# Altium integrated library Lattice CPLD ispXPLD 5000MX.IntLib: 156 symbols (part 31 of 46)
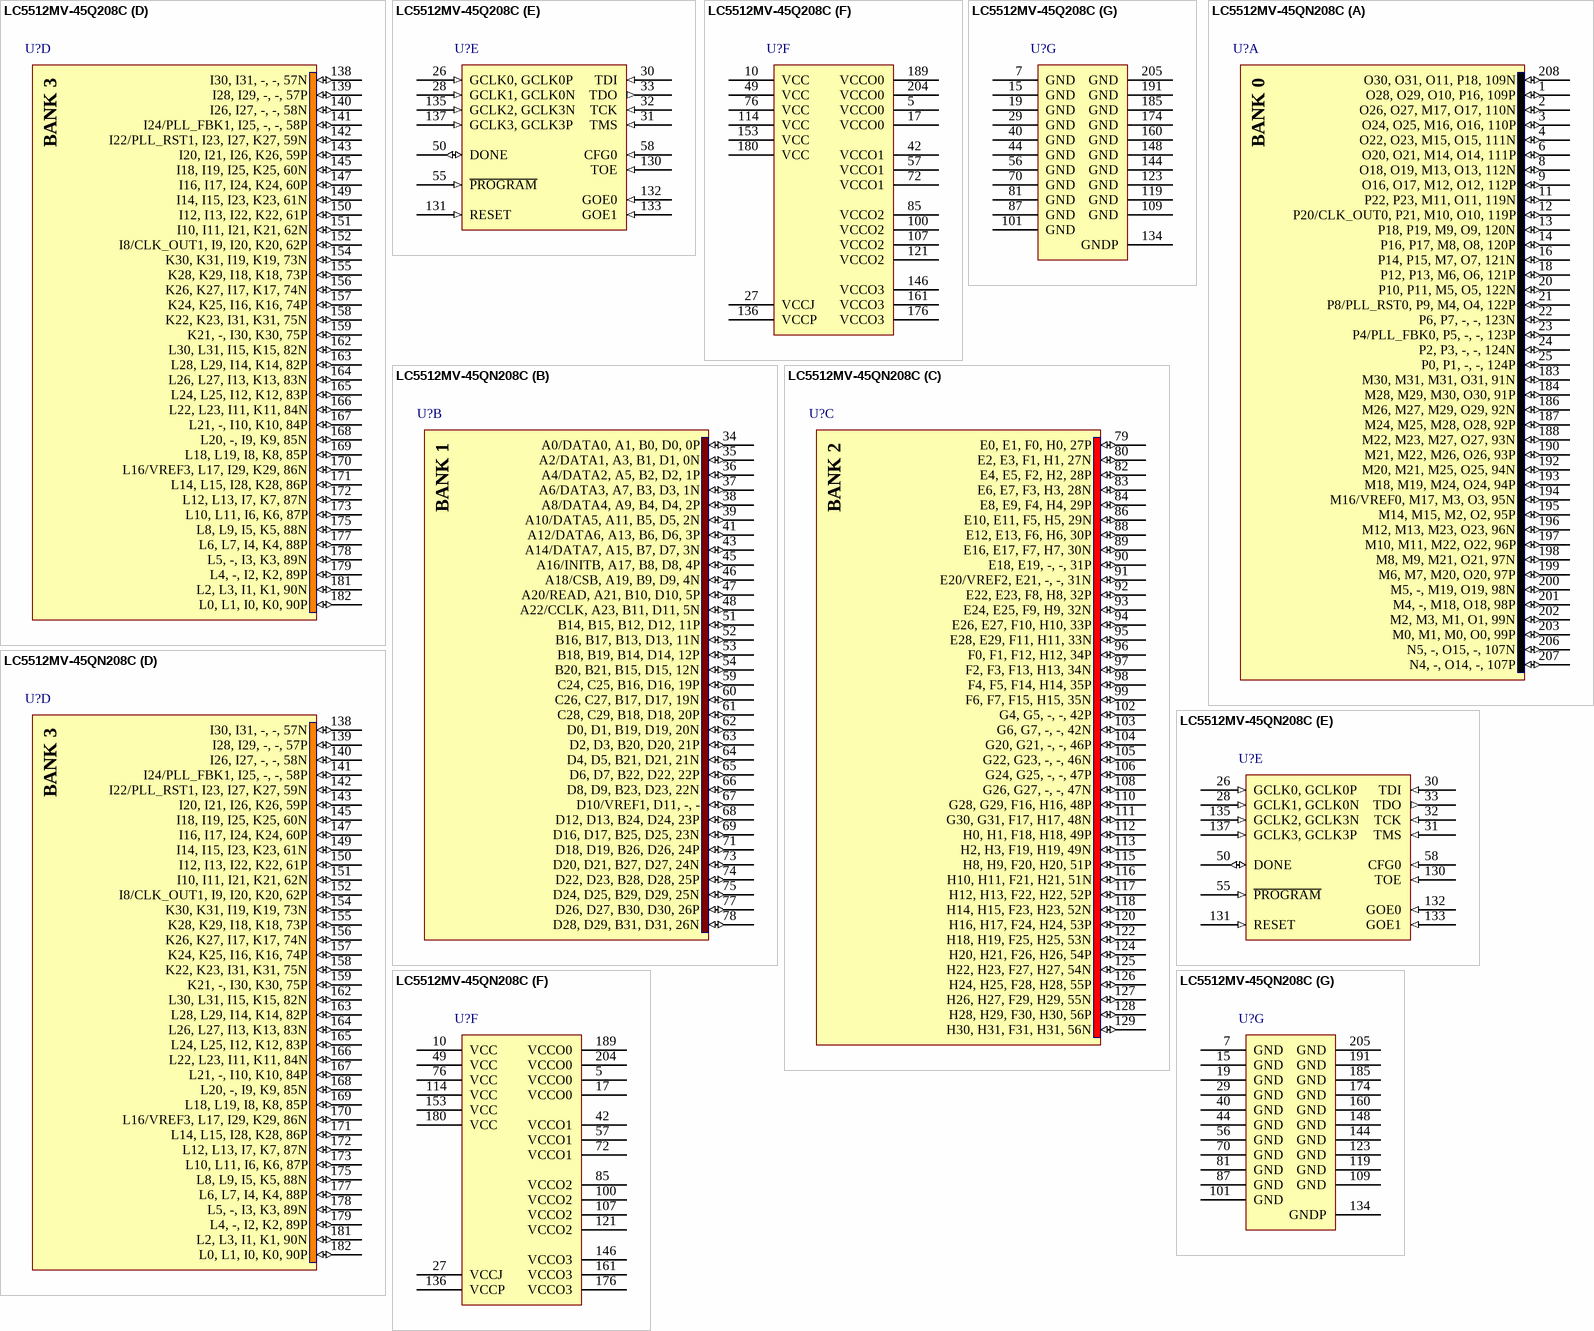
[diagram p312: symbols LC5512MV-45Q208C to LC5512MV-45QN208C]

## LC5512MV-45QN208C
designator U?
ispXPLD 5512M eXpanded PLD: 3.3 V, 149 User I/Os, 208-Pin PQFP, Speed 4.5 ns, Commercial Grade, Pb-Free; Published: 6-Oct-2005; LatestRevisionDate: 30-Mar-2007; LatestRevisionNote: Banks placed in parts.; DatasheetVersion: ver12.2, Mar-2006; PackageVersion: ver01.2 Feb-2007; PackageReference: PQFP208; Publisher: Altium Limited; PackageDescription: 208-Pin Plastic Quad Flat Pack (PQFP208); Code_JEDEC: MO-143-FAI; ComponentLink1Description: Manufacturer Link; ComponentLink1URL: http://www.latticesemi.com/products/cpld/xpld/index.cfm; ComponentLink2Description: Datasheet; ComponentLink2URL: http://www.latticesemi.com/lit/docs/datasheets/cpld/5kmx.pdf
footprint PQFP208_N (Shrink QFP, 208-Leads, Body 28x28mm, Pitch 0.5mm, IPC Medium Density)
footprint PQFP208_L (Shrink QFP, 208-Leads, Body 28x28mm, Pitch 0.5mm, IPC High Density)
footprint PQFP208_M (Shrink QFP, 208-Leads, Body 28x28mm, Pitch 0.5mm, IPC Low Density)
3D model ispXPLD5512MV-FQFP208 (208-Pin Plastic Quad Flat Pack (PQFP208))
part A pins: 1 O28, O29, O10, P16, 109P (io) "General purpose I/O.", 2 O26, O27, M17, O17, 110N (io) "General purpose I/O.", 3 O24, O25, M16, O16, 110P (io) "General purpose I/O.", 4 O22, O23, M15, O15, 111N (io) "General purpose I/O.", 6 O20, O21, M14, O14, 111P (io) "General purpose I/O.", 8 O18, O19, M13, O13, 112N (io) "General purpose I/O.", 9 O16, O17, M12, O12, 112P (io) "General purpose I/O.", 11 P22, P23, M11, O11, 119N (io) "General purpose I/O.", 12 P20/CLK_OUT0, P21, M10, O10, 119P (io) "Dual-purpose pin that is general I/O or Optional clock output from PLL0.", 13 P18, P19, M9, O9, 120N (io) "General purpose I/O.", 14 P16, P17, M8, O8, 120P (io) "General purpose I/O.", 16 P14, P15, M7, O7, 121N (io) "General purpose I/O.", 18 P12, P13, M6, O6, 121P (io) "General purpose I/O.", 20 P10, P11, M5, O5, 122N (io) "General purpose I/O.", 21 P8/PLL_RST0, P9, M4, O4, 122P (io) "Dual-purpose pin that is general I/O or Optional input resets M divider in PLL0.", 22 P6, P7, -, -, 123N (io) "General purpose I/O.", 23 P4/PLL_FBK0, P5, -, -, 123P (io) "Dual-purpose pin that is general I/O or Optional feeback for PLL0.", 24 P2, P3, -, -, 124N (io) "General purpose I/O.", 25 P0, P1, -, -, 124P (io) "General purpose I/O.", 183 M30, M31, M31, O31, 91N (io) "General purpose I/O.", 184 M28, M29, M30, O30, 91P (io) "General purpose I/O.", 186 M26, M27, M29, O29, 92N (io) "General purpose I/O.", 187 M24, M25, M28, O28, 92P (io) "General purpose I/O.", 188 M22, M23, M27, O27, 93N (io) "General purpose I/O.", 190 M21, M22, M26, O26, 93P (io) "General purpose I/O.", 192 M20, M21, M25, O25, 94N (io) "General purpose I/O.", 193 M18, M19, M24, O24, 94P (io) "General purpose I/O.", 194 M16/VREF0, M17, M3, O3, 95N (io) "Dual-purpose pin that is general I/O or Defines I/O bank reference voltage.", 195 M14, M15, M2, O2, 95P (io) "General purpose I/O.", 196 M12, M13, M23, O23, 96N (io) "General purpose I/O.", 197 M10, M11, M22, O22, 96P (io) "General purpose I/O.", 198 M8, M9, M21, O21, 97N (io) "General purpose I/O.", 199 M6, M7, M20, O20, 97P (io) "General purpose I/O.", 200 M5, -, M19, O19, 98N (io) "General purpose I/O.", 201 M4, -, M18, O18, 98P (io) "General purpose I/O.", 202 M2, M3, M1, O1, 99N (io) "General purpose I/O.", 203 M0, M1, M0, O0, 99P (io) "General purpose I/O.", 206 N5, -, O15, -, 107N (io) "General purpose I/O.", 207 N4, -, O14, -, 107P (io) "General purpose I/O.", 208 O30, O31, O11, P18, 109N (io) "General purpose I/O."
part B pins: 34 A0/DATA0, A1, B0, D0, 0P (io) "Dual-purpose pin that is general I/O or sysCONFIG data pin.", 35 A2/DATA1, A3, B1, D1, 0N (io) "Dual-purpose pin that is general I/O or sysCONFIG data pin.", 36 A4/DATA2, A5, B2, D2, 1P (io) "Dual-purpose pin that is general I/O or sysCONFIG data pin.", 37 A6/DATA3, A7, B3, D3, 1N (io) "Dual-purpose pin that is general I/O or sysCONFIG data pin.", 38 A8/DATA4, A9, B4, D4, 2P (io) "Dual-purpose pin that is general I/O or sysCONFIG data pin.", 39 A10/DATA5, A11, B5, D5, 2N (io) "Dual-purpose pin that is general I/O or sysCONFIG data pin.", 41 A12/DATA6, A13, B6, D6, 3P (io) "Dual-purpose pin that is general I/O or sysCONFIG data pin.", 43 A14/DATA7, A15, B7, D7, 3N (io) "Dual-purpose pin that is general I/O or sysCONFIG data pin.", 45 A16/INITB, A17, B8, D8, 4P (io) "Dual-purpose pin that is general I/O or Indicates status of configuration.", 46 A18/CSB, A19, B9, D9, 4N (io) "General purpose I/O.", 47 A20/READ, A21, B10, D10, 5P (io) "Dual-purpose pin that is general I/O or Drive high to perform reads from sysCONFIG interface.", 48 A22/CCLK, A23, B11, D11, 5N (io) "General purpose I/O.", 51 B14, B15, B12, D12, 11P (io) "General purpose I/O.", 52 B16, B17, B13, D13, 11N (io) "General purpose I/O.", 53 B18, B19, B14, D14, 12P (io) "General purpose I/O.", 54 B20, B21, B15, D15, 12N (io) "General purpose I/O.", 59 C24, C25, B16, D16, 19P (io) "General purpose I/O.", 60 C26, C27, B17, D17, 19N (io) "General purpose I/O.", 61 C28, C29, B18, D18, 20P (io) "General purpose I/O.", 62 D0, D1, B19, D19, 20N (io) "General purpose I/O.", 63 D2, D3, B20, D20, 21P (io) "General purpose I/O.", 64 D4, D5, B21, D21, 21N (io) "General purpose I/O.", 65 D6, D7, B22, D22, 22P (io) "General purpose I/O.", 66 D8, D9, B23, D23, 22N (io) "General purpose I/O.", 67 D10/VREF1, D11, -, - (io) "Dual-purpose pin that is general I/O or Defines I/O bank reference voltage.", 68 D12, D13, B24, D24, 23P (io) "General purpose I/O.", 69 D16, D17, B25, D25, 23N (io) "General purpose I/O.", 71 D18, D19, B26, D26, 24P (io) "General purpose I/O.", 73 D20, D21, B27, D27, 24N (io) "General purpose I/O.", 74 D22, D23, B28, D28, 25P (io) "General purpose I/O.", 75 D24, D25, B29, D29, 25N (io) "General purpose I/O.", 77 D26, D27, B30, D30, 26P (io) "General purpose I/O.", 78 D28, D29, B31, D31, 26N (io) "General purpose I/O."
part C pins: 79 E0, E1, F0, H0, 27P (io) "General purpose I/O.", 80 E2, E3, F1, H1, 27N (io) "General purpose I/O.", 82 E4, E5, F2, H2, 28P (io) "General purpose I/O.", 83 E6, E7, F3, H3, 28N (io) "General purpose I/O.", 84 E8, E9, F4, H4, 29P (io) "General purpose I/O.", 86 E10, E11, F5, H5, 29N (io) "General purpose I/O.", 88 E12, E13, F6, H6, 30P (io) "General purpose I/O.", 89 E16, E17, F7, H7, 30N (io) "General purpose I/O.", 90 E18, E19, -, -, 31P (io) "General purpose I/O.", 91 E20/VREF2, E21, -, -, 31N (io) "Dual-purpose pin that is general I/O or Defines I/O bank reference voltage.", 92 E22, E23, F8, H8, 32P (io) "General purpose I/O.", 93 E24, E25, F9, H9, 32N (io) "General purpose I/O.", 94 E26, E27, F10, H10, 33P (io) "General purpose I/O.", 95 E28, E29, F11, H11, 33N (io) "General purpose I/O.", 96 F0, F1, F12, H12, 34P (io) "General purpose I/O.", 97 F2, F3, F13, H13, 34N (io) "General purpose I/O.", 98 F4, F5, F14, H14, 35P (io) "General purpose I/O.", 99 F6, F7, F15, H15, 35N (io) "General purpose I/O.", 102 G4, G5, -, -, 42P (io) "General purpose I/O.", 103 G6, G7, -, -, 42N (io) "General purpose I/O.", 104 G20, G21, -, -, 46P (io) "General purpose I/O.", 105 G22, G23, -, -, 46N (io) "General purpose I/O.", 106 G24, G25, -, -, 47P (io) "General purpose I/O.", 108 G26, G27, -, -, 47N (io) "General purpose I/O.", 110 G28, G29, F16, H16, 48P (io) "General purpose I/O.", 111 G30, G31, F17, H17, 48N (io) "General purpose I/O.", 112 H0, H1, F18, H18, 49P (io) "General purpose I/O.", 113 H2, H3, F19, H19, 49N (io) "General purpose I/O.", 115 H8, H9, F20, H20, 51P (io) "General purpose I/O.", 116 H10, H11, F21, H21, 51N (io) "General purpose I/O.", 117 H12, H13, F22, H22, 52P (io) "General purpose I/O.", 118 H14, H15, F23, H23, 52N (io) "General purpose I/O.", 120 H16, H17, F24, H24, 53P (io) "General purpose I/O.", 122 H18, H19, F25, H25, 53N (io) "General purpose I/O.", 124 H20, H21, F26, H26, 54P (io) "General purpose I/O.", 125 H22, H23, F27, H27, 54N (io) "General purpose I/O.", 126 H24, H25, F28, H28, 55P (io) "General purpose I/O.", 127 H26, H27, F29, H29, 55N (io) "General purpose I/O.", 128 H28, H29, F30, H30, 56P (io) "General purpose I/O.", 129 H30, H31, F31, H31, 56N (io) "General purpose I/O."
part D pins: 138 I30, I31, -, -, 57N (io) "General purpose I/O.", 139 I28, I29, -, -, 57P (io) "General purpose I/O.", 140 I26, I27, -, -, 58N (io) "General purpose I/O.", 141 I24/PLL_FBK1, I25, -, -, 58P (io) "Dual-purpose pin that is general I/O or Optional feeback for PLL1.", 142 I22/PLL_RST1, I23, I27, K27, 59N (io) "Dual-purpose pin that is general I/O or Optional input resets M divider in PLL1.", 143 I20, I21, I26, K26, 59P (io) "General purpose I/O.", 145 I18, I19, I25, K25, 60N (io) "General purpose I/O.", 147 I16, I17, I24, K24, 60P (io) "General purpose I/O.", 149 I14, I15, I23, K23, 61N (io) "General purpose I/O.", 150 I12, I13, I22, K22, 61P (io) "General purpose I/O.", 151 I10, I11, I21, K21, 62N (io) "General purpose I/O.", 152 I8/CLK_OUT1, I9, I20, K20, 62P (io) "Dual-purpose pin that is general I/O or Optional clock output from PLL1.", 154 K30, K31, I19, K19, 73N (io) "General purpose I/O.", 155 K28, K29, I18, K18, 73P (io) "General purpose I/O.", 156 K26, K27, I17, K17, 74N (io) "General purpose I/O.", 157 K24, K25, I16, K16, 74P (io) "General purpose I/O.", 158 K22, K23, I31, K31, 75N (io) "General purpose I/O.", 159 K21, -, I30, K30, 75P (io) "General purpose I/O.", 162 L30, L31, I15, K15, 82N (io) "General purpose I/O.", 163 L28, L29, I14, K14, 82P (io) "General purpose I/O.", 164 L26, L27, I13, K13, 83N (io) "General purpose I/O.", 165 L24, L25, I12, K12, 83P (io) "General purpose I/O.", 166 L22, L23, I11, K11, 84N (io) "General purpose I/O.", 167 L21, -, I10, K10, 84P (io) "General purpose I/O.", 168 L20, -, I9, K9, 85N (io) "General purpose I/O.", 169 L18, L19, I8, K8, 85P (io) "General purpose I/O.", 170 L16/VREF3, L17, I29, K29, 86N (io) "Dual-purpose pin that is general I/O or Defines I/O bank reference voltage.", 171 L14, L15, I28, K28, 86P (io) "General purpose I/O.", 172 L12, L13, I7, K7, 87N (io) "General purpose I/O.", 173 L10, L11, I6, K6, 87P (io) "General purpose I/O.", 175 L8, L9, I5, K5, 88N (io) "General purpose I/O.", 177 L6, L7, I4, K4, 88P (io) "General purpose I/O.", 178 L5, -, I3, K3, 89N (io) "General purpose I/O.", 179 L4, -, I2, K2, 89P (io) "General purpose I/O.", 181 L2, L3, I1, K1, 90N (io) "General purpose I/O.", 182 L0, L1, I0, K0, 90P (io) "General purpose I/O."
part E pins: 26 GCLK0, GCLK0P (in) "Global clock/clock enable input.", 28 GCLK1, GCLK0N (in) "Global clock/clock enable input.", 30 TDI (in) "Test Data Input. Loads data into device using 1149.1 state machine.", 31 TMS (in) "Test Mode Select Input to control 1149.1 state machine.", 32 TCK (in) "Test Clock Input for 1149.1 state machine.", 33 TDO (out) "Test Data Output. Shifts data out of device using 1149.1.", 50 DONE (io) "Indicates configuration status.", 55 ~{PROGRAM} (in) "Controls SRAM programming. Hold high for normal operation. Toggle low to reload SRAM from E2 memory.", 58 CFG0 (in) "Clock for sysCONFIG interface. Reads & writes occur on rising edge of clock.", 130 TOE (in) "Test Output Enable. Tristates all I/O pins when driven low.", 131 RESET (in) "Resets all registers.", 132 GOE0 (in) "Global output enable input.", 133 GOE1 (in) "Global output enable input.", 135 GCLK2, GCLK3N (in) "Global clock/clock enable input.", 137 GCLK3, GCLK3P (in) "Global clock/clock enable input."
part F pins: 5 VCCO0 (power) "Power supply for I/O bank.", 10 VCC (power) "Power supply for core logic.", 17 VCCO0 (power) "Power supply for I/O bank.", 27 VCCJ (power) "Power supply for IEEE1149.1 interface.", 42 VCCO1 (power) "Power supply for I/O bank.", 49 VCC (power) "Power supply for core logic.", 57 VCCO1 (power) "Power supply for I/O bank.", 72 VCCO1 (power) "Power supply for I/O bank.", 76 VCC (power) "Power supply for core logic.", 85 VCCO2 (power) "Power supply for I/O bank.", 100 VCCO2 (power) "Power supply for I/O bank.", 107 VCCO2 (power) "Power supply for I/O bank.", 114 VCC (power) "Power supply for core logic.", 121 VCCO2 (power) "Power supply for I/O bank.", 136 VCCP (power) "Power Supply for PLL.", 146 VCCO3 (power) "Power supply for I/O bank.", 153 VCC (power) "Power supply for core logic.", 161 VCCO3 (power) "Power supply for I/O bank.", 176 VCCO3 (power) "Power supply for I/O bank.", 180 VCC (power) "Power supply for core logic.", 189 VCCO0 (power) "Power supply for I/O bank.", 204 VCCO0 (power) "Power supply for I/O bank."
part G pins: 7 GND (power) "Ground.", 15 GND (power) "Ground.", 19 GND (power) "Ground.", 29 GND (power) "Ground.", 40 GND (power) "Ground.", 44 GND (power) "Ground.", 56 GND (power) "Ground.", 70 GND (power) "Ground.", 81 GND (power) "Ground.", 87 GND (power) "Ground.", 101 GND (power) "Ground.", 109 GND (power) "Ground.", 119 GND (power) "Ground.", 123 GND (power) "Ground.", 134 GNDP (power) "Ground for PLL.", 144 GND (power) "Ground.", 148 GND (power) "Ground.", 160 GND (power) "Ground.", 174 GND (power) "Ground.", 185 GND (power) "Ground.", 191 GND (power) "Ground.", 205 GND (power) "Ground."
part A text: BANK 0
part B text: BANK 1
part C text: BANK 2
part D text: BANK 3

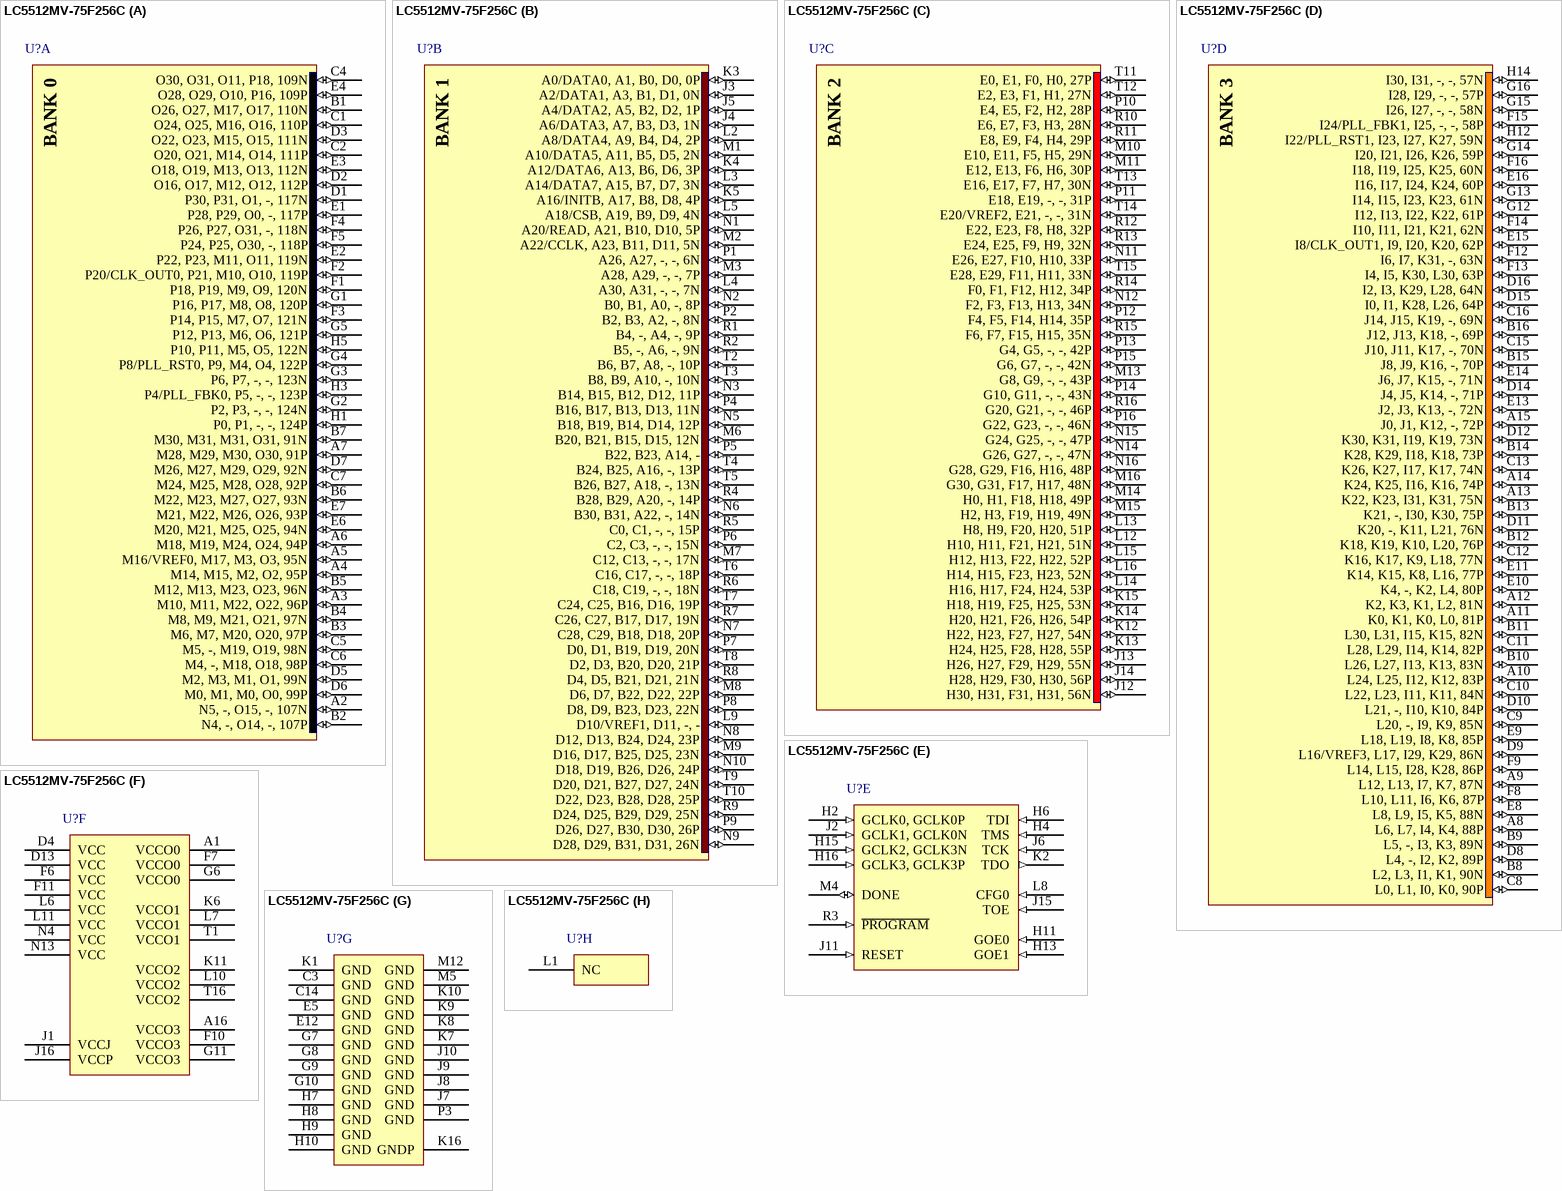
[diagram p68: symbol LC5512MV-75F256C]